# EAGLE library part 171-025-2 (library Connector_D-Sub)
D-SUB, 25POS, RCPT, PNL MNT SLDR Datasheet <https://content.norcomp.net/rohspdfs/Connectors/17Y/171/171-YYY-213RYY1.pdf>
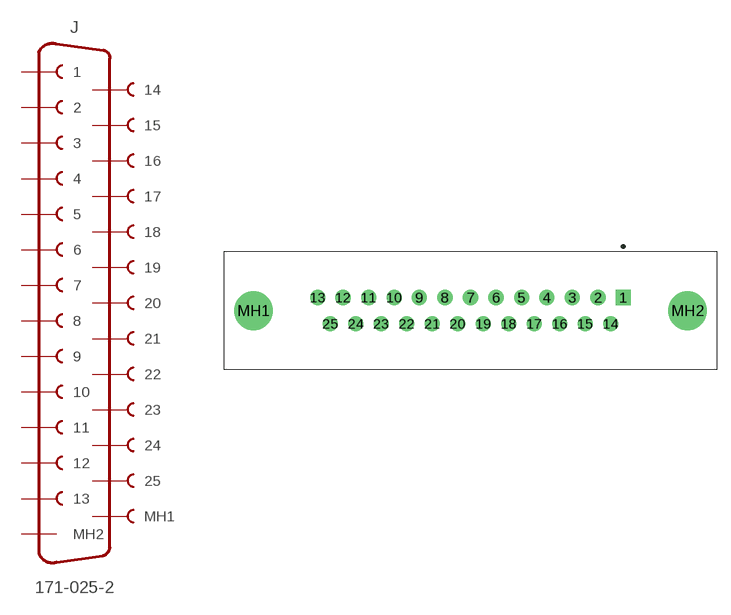
[diagram p11: symbol with the pads of 171-025-213R001; footprint 171-025-213R001]

Designator prefix J

## 171-025-2 (CATEGORY: Connector; DESCRIPTION: D Sub Connector, DB25, Standard, Receptacle, 171 Series, 25 Contacts, DB, Solder; GENDER: Female; MANUFACTURER: NORCOMP; MPN: 171-025-213R001; OPERATING_TEMP: -55°C to 125°C; PART_STATUS: Active; ROHS_COMPLIANT: RoHS Compliant; SERIES: 171; SUB-CATEGORY: D-SUB; TYPE: Vertical; VALUE: D-SUB-RCPT-25P)  [171-025-213R001]
1  1  pas
2  2  pas
3  3  pas
4  4  pas
5  5  pas
6  6  pas
7  7  pas
8  8  pas
9  9  pas
10  10  pas
11  11  pas
12  12  pas
13  13  pas
14  14  pas
15  15  pas
16  16  pas
17  17  pas
18  18  pas
19  19  pas
20  20  pas
21  21  pas
22  22  pas
23  23  pas
24  24  pas
25  25  pas
MH1  MH1  sup
MH2  MH2  sup

## Footprint 171-025-213R001 (pad centres in mm)
drill 1.092 square: 1 0,0
drill 1.092: 2 -2.743,0; 3 -5.512,0; 4 -8.28,0; 5 -11.024,0; 6 -13.792,0; 7 -16.561,0; 8 -19.329,0; 9 -22.098,0; 10 -24.841,0; 11 -27.61,0; 12 -30.378,0; 13 -33.122,0; 14 -1.372,-2.845; 15 -4.14,-2.845; 16 -6.883,-2.845; 17 -9.652,-2.845; 18 -12.421,-2.845; 19 -15.164,-2.845; 20 -17.958,-2.845; 21 -20.701,-2.845; 22 -23.47,-2.845; 23 -26.238,-2.845; 24 -28.981,-2.845; 25 -31.75,-2.845
drill 3.2: MH1 -40.081,-1.422; MH2 6.96,-1.422